# Altium schematic symbol library lightshow.SchLib: 8 symbols
Pins are listed as number, name and electrical type; pins without a type are passive.

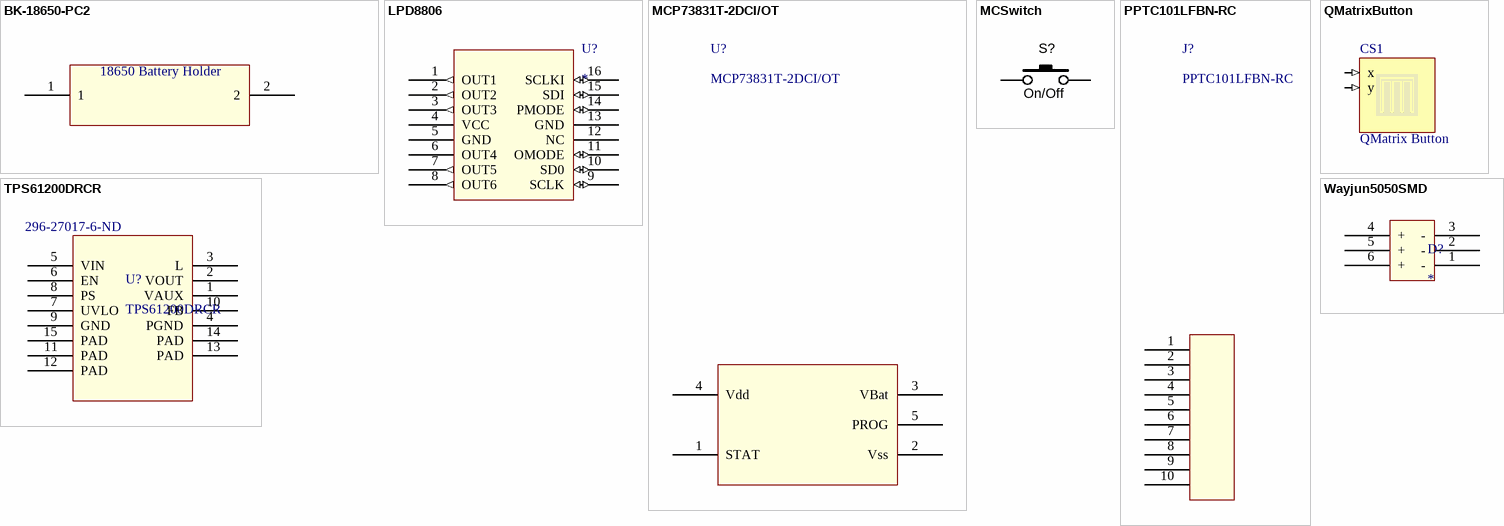
[diagram p0: symbols BK-18650-PC2 to Wayjun5050SMD]

## BK-18650-PC2
designator B?
BK-18650-PC2 HOLDER BATT 1/LI-ION PROTECTED
footprint BK-18650-PC2 (BC-86650-PC2 Battery Holder)
pins: 1 (power) "BatPlus", 2 (power) "BatMinus"
text: 18650 Battery Holder

## LPD8806
designator U?
LPD8806 LED Driver
footprint SOP127P600-8N
pins: 1 OUT1 (out), 2 OUT2 (out) "OUT1", 3 OUT3 (out) "OUT1", 4 VCC (power), 5 GND (power), 6 OUT4 (power) "GND", 7 OUT5 (out), 8 OUT6 (out) "OUT5", 9 SCLK (io), 10 SD0 (io) "SCLK", 11 OMODE (io) "SCLK", 12 NC, 13 GND (power), 14 PMODE (io), 15 SDI (io) "PMODE", 16 SCLKI (io)

## MCP73831T-2DCI/OT
designator U?
IC CONTROLLR LI-ION 4.2V SOT23-5
footprint SOT95P270X145-5N
pins: 1 STAT, 2 Vss, 3 VBat "Vbat", 4 Vdd (power), 5 PROG

## MCSwitch
designator S?, comment Function: On/Off  (hidden comment: SharedCapSwitch)  (no BOM)
Mutual Capacitance Switch; Manufacturer 1: Panasonic - ECG; Manufacturer Part Number 1: EVQ-PQHB55; Ratings: 1.6 Newton; Switch Function: Off-Mom; Contact Rating @ Voltage: 0.02A @ 15VDC; Outline: 4.50mm x 4.50mm; Operating Force: 160gf; SCDType: spec; Package / Case: per dwg; Supplier 1: Digi-Key; Supplier Part Number 1: P8090SCT-ND; Mounting Type: Surface Mount; Orientation: Vertical; ComponentLink1URL: http://industrial.panasonic.com/www-data/pdf/ATK0000/ATK0000CE1.pdf; ComponentLink1Description: http://industrial.panasonic.com/www-data/pdf/ATK0000/ATK0000CE1.pdf
footprint MUTCAPSWITCH
pins: 1, 2

## PPTC101LFBN-RC
designator J?
Sullins PPTC101LFBN-RC 10 Position Header Connector 0.100" (2.54mm) Through Hole Tin
footprint PPTC101LFBN-RC (Sullins 10 Pin .100 spacing Femal connector - Single Role)
pins: 1, 2, 3, 4, 5, 6, 7, 8, 9, 10

## QMatrixButton
designator CS1, comment QMatrix Button  (no BOM)
ConfiguratorName: ATMEL_TOUCH; ConfigurationParameters: {}__sensorid[2]{}width[7]{}height[7]{}t[1]{}ywidth[0.3]{}
footprint qtouchsw
pins: x (in), y (in)

## TPS61200DRCR
designator U?  Supplier Part Number 1: 296-27017-6-ND
TPS61200DRCR Boost Switching Regulator IC Positive Adjustable 1.8V 1 Output 1.2A (Switch) 10-VFDFN Exposed Pad; Supplier 1: Digi-Key
footprint QFN-10_PAD
pins: 1 VAUX, 2 VOUT, 3 L, 4 PGND, 5 VIN, 6 EN, 7 UVLO, 8 PS, 9 GND, 10 FB, 11 PAD, 12 PAD, 13 PAD, 14 PAD, 15 PAD

## Wayjun5050SMD
designator D?
footprint SON150P500X150_HS-7N (SON, 6-Leads, Body 5.00x5.00mm, Pitch 1.50mm, Thermal Pad 4.00x1.50mm, IPC Medium Density)
pins: 1 -, 2 -, 3 -, 4 +, 5 +, 6 +